# Altium schematic symbol library Cubesat_lib.SchLib: 126 symbols (part 2 of 2)
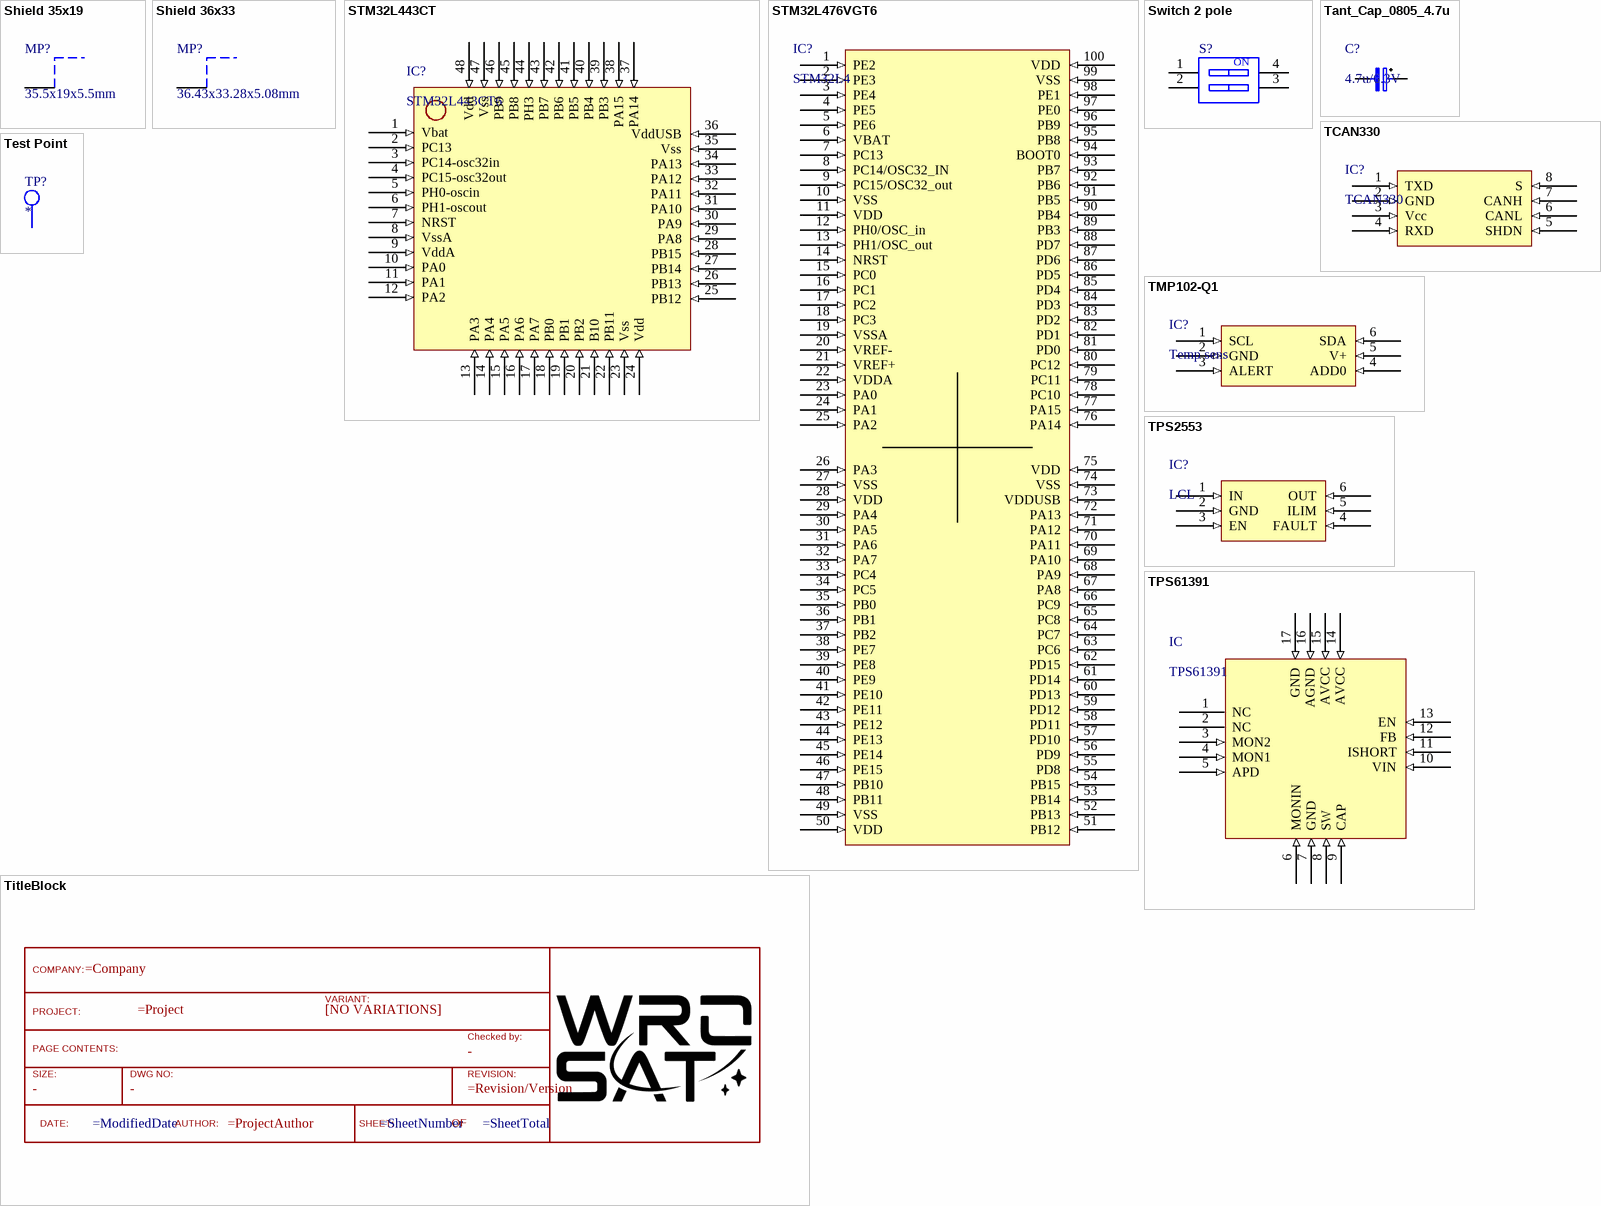
[diagram p4: symbols Shield 35x19 to TPS61391]

## STM32L476VGT6
designator IC?, comment STM32L4
Microcontroller STM32; ComponentLink1Description: New link; ComponentLink1URL: https://www.digchip.com/datasheets/parts/datasheet/456/STM32L476-pdf.php
footprint LQFP100 (TSQFP, 100-Leads, Body 14.00x14.00mm, Pitch 0.50mm, IPC Medium Density)
pins: 1 PE2 (in), 2 PE3 (in), 3 PE4 (in), 4 PE5 (in), 5 PE6 (in), 6 VBAT (in), 7 PC13 (in), 8 PC14/OSC32_IN (in), 9 PC15/OSC32_out (in), 10 VSS (in), 11 VDD (in), 12 PH0/OSC_in (in), 13 PH1/OSC_out (in), 14 NRST (in), 15 PC0 (in), 16 PC1 (in), 17 PC2 (in), 18 PC3 (in), 19 VSSA (in), 20 VREF- (in), 21 VREF+ (in), 22 VDDA (in), 23 PA0 (in), 24 PA1 (in), 25 PA2 (in), 26 PA3 (in), 27 VSS (in), 28 VDD (in), 29 PA4 (in), 30 PA5 (in), 31 PA6 (in), 32 PA7 (in), 33 PC4 (in), 34 PC5 (in), 35 PB0 (in), 36 PB1 (in), 37 PB2 (in), 38 PE7 (in), 39 PE8 (in), 40 PE9 (in), 41 PE10 (in), 42 PE11 (in), 43 PE12 (in), 44 PE13 (in), 45 PE14 (in), 46 PE15 (in), 47 PB10 (in), 48 PB11 (in), 49 VSS (in), 50 VDD (in), 51 PB12 (in), 52 PB13 (in), 53 PB14 (in), 54 PB15 (in), 55 PD8 (in), 56 PD9 (in), 57 PD10 (in), 58 PD11 (in), 59 PD12 (in), 60 PD13 (in), 61 PD14 (in), 62 PD15 (in), 63 PC6 (in), 64 PC7 (in), 65 PC8 (in), 66 PC9 (in), 67 PA8 (in), 68 PA9 (in), 69 PA10 (in), 70 PA11 (in), 71 PA12 (in), 72 PA13 (in), 73 VDDUSB (in), 74 VSS (in), 75 VDD (in), 76 PA14 (in), 77 PA15 (in), 78 PC10 (in), 79 PC11 (in), 80 PC12 (in), 81 PD0 (in), 82 PD1 (in), 83 PD2 (in), 84 PD3 (in), 85 PD4 (in), 86 PD5 (in), 87 PD6 (in), 88 PD7 (in), 89 PB3 (in), 90 PB4 (in), 91 PB5 (in), 92 PB6 (in), 93 PB7 (in), 94 BOOT0 (in), 95 PB8 (in), 96 PB9 (in), 97 PE0 (in), 98 PE1 (in), 99 VSS (in), 100 VDD (in)

## Switch 2 pole
designator S?
WS-DISV Small Compact SMD Dip Switch, Flat Actuator with Top Tape, pitch 1.27mm, 2p; Part Number: 416131160802; Operation Force: 500g; Pole Number: 2; Actuator Type: Flat Type; Circuit: SPST-NO; Rated Current Switching: 25mA; Rated Current Non-Switching: 100mA; Rated Voltage Non-Switching: 50VDC; Rated Voltage Switching: 24VDC; ComponentLink1Description: Manufacturer; ComponentLink1URL: http://www.we-online.de; ComponentLink2Description: Datasheet; ComponentLink2URL: https://katalog.we-online.com/em/datasheet/416131160802.pdf; Pitch: 1.27mm; Contact Material: Copper Alloy; Mounting Technology: SMT; Operating Temperature: -40 to +85degC; Contact Plating: Gold; Packaging: Tape and Reel; Publisher: Wurth Elektronik; Published Date: September 2019
footprint Dip Switch 2 (SMD Dip Switch, Small Compact, Raised Actuator, 2pin)
pins: 1, 2, 3, 4
text: ON

## Tant_Cap_0805_4.7u
designator C?, comment 4.7u/6.3V
Tantalum capacitor, 0805, 6.3V, 10% (switch me to automotive qualified - space version); ComponentLink1Description: New link; ComponentLink1URL: https://pl.mouser.com/ProductDetail/AVX/TAJR475K006RNJ?qs=sGAEpiMZZMtZ1n0r9vR22f0Jgorj1M1uIKsi7XN07nk%3D
footprint CAP_TANT_0805 (Molded Capacitor, 2-Leads, Body 2.05x1.30mm, IPC Medium Density)
pins: 1, 2

## TCAN330
designator IC?
CAN transceiver, 3,3V
footprint SOIC8 (SOIC, 8-Leads, Body 5.00x4.00mm, Pitch 1.27mm, IPC Medium Density)
pins: 1 TXD (in), 2 GND (in), 3 Vcc (in), 4 RXD (in), 5 SHDN (in), 6 CANL (in), 7 CANH (in), 8 S (in)

## Test Point
designator TP?
footprint Test Point SMT
pins: 1

## TitleBlock
designator ?  (graphical)
Standard TitleBlock; DrawingNo: -; Size: -; Checked: -
text: COMPANY:; VARIANT:; PROJECT:; [NO VARIATIONS]; Checked by:; PAGE CONTENTS:; SIZE:; DWG NO:; REVISION:; DATE:; AUTHOR:; SHEET:; OF

## TMP102-Q1
designator IC?, comment Temp sens
Temperature sensor, TMP102-Q1 Low-Power Digital Temperature Sensor With SMBus / and Two-Wire Serial Interface in SOT563; ComponentLink1Description: New link; ComponentLink1URL: https://www.ti.com/lit/ds/symlink/tmp102-q1.pdf?ts=1605094603566&ref_url=https%253A%252F%252Fwww.ti.com%252Fproduct%252FTMP102-Q1
footprint SOT563
pins: 1 SCL (in), 2 GND (in), 3 ALERT (in), 4 ADD0 (in), 5 V+ (in), 6 SDA (in)

## TPS2553
designator IC?, comment LCL
Latch-off Current Limiter; ComponentLink1Description: New link; ComponentLink1URL: https://www.ti.com/lit/ds/symlink/tps2553.pdf?ts=1603819295065&ref_url=https%253A%252F%252Fwww.google.com%252F
footprint SOT-23-6
pins: 1 IN (in), 2 GND (in), 3 EN (in), 4 FAULT (in), 5 ILIM (in), 6 OUT (in)

## TPS61391
designator IC
TPS61391 85-VOUT Boost Converter with Current Mirror Integrated; ComponentLink1Description: New link; ComponentLink1URL: https://www.ti.com/lit/ds/symlink/tps61391.pdf
footprint WQFN16 (QFN, 16-Leads, Body 3.15x3.15mm, Pitch 0.50mm, Thermal Pad 1.66x1.50mm, IPC Medium Density)
pins: 1 NC, 2 NC, 3 MON2 (in), 4 MON1 (in), 5 APD (in), 6 MONIN (in), 7 GND (in), 8 SW (in), 9 CAP (in), 10 VIN (in), 11 ISHORT (in), 12 FB (in), 13 EN (in), 14 AVCC (in), 15 AVCC (in), 16 AGND (in), 17 GND (in)